# Altium schematic symbol library Schlib.SchLib: 3 symbols
Pins are listed as number, name and electrical type; pins without a type are passive.

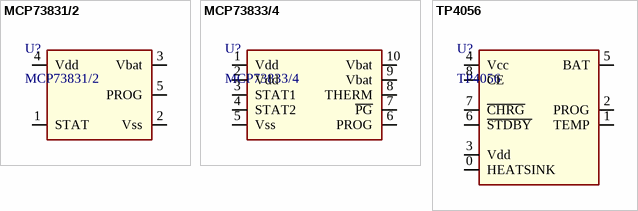
[diagram p0: symbols MCP73831/2 to TP4056]

## MCP73831/2
designator U?
Miniature Single-Cell, Fully Integrated Li-Ion,  Li-Polymer Charge Management Controllers
footprint LC-SOT-23-5
pins: 1 STAT, 2 Vss, 3 Vbat, 4 Vdd, 5 PROG

## MCP73833/4
designator U?
Miniature Single-Cell, Fully Integrated Li-Ion,  Li-Polymer Charge Management Controllers
footprint LC-DFN-10_EP_3x3mm
pins: 1 Vdd, 2 Vdd, 3 STAT1, 4 STAT2, 5 Vss, 6 PROG, 7 ~{PG}, 8 THERM, 9 Vbat, 10 Vbat

## TP4056
designator U?
1A Standalone Linear Li-lon Battery Charger with Thermal   Regulation in SOP-8
footprint LC-SOP-8_EP_150mil
pins: 0 HEATSINK, 1 TEMP, 2 PROG, 3 Vdd, 4 Vcc, 5 BAT, 6 ~{STDBY}, 7 ~{CHRG}, 8 CE